# Altium schematic symbol library RESISTOR_10k.SchLib: 1 symbol
Pins are listed as number, name and electrical type; pins without a type are passive.

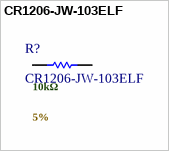
[diagram p0: symbol CR1206-JW-103ELF]

## CR1206-JW-103ELF
designator R?  .Value: 10kΩ  .Tolerance: 5%
SMD Chip Resistor, 10 kOhm, ± 5%, 250 mW, 1206 [3216 Metric], Thick Film, General Purpose; Manufacturer: Vishay; Manufacturer Part Number: CRCW120610K0JNEA; Power Dissipation: 250mW; Value: 10kΩ; Temperature Coefficient: 200ppm/°C; Voltage Rating: 200V; Supplier: Avnet; Supplier Part Number: CRCW120610K0JNEA; RoHS: Compliant; Category: Chip SMD Resistors; Stock: 700000; Pricing: 5000=0,00338 (USD); Case/Package: 1206; Case Code (Imperial): 1206; Case Code (Metric): 3216; China RoHS: Non-Compliant; Composition: Thick Film; Contact Plating: Tin; Depth: 1.6mm; Height: 550µm; Lead Free: Lead Free; Length: 3.2mm; Lifecycle Status: Production; Max Operating Temperature: 155°C; Military Standard: Not; Min Operating Temperature: -55°C; Mounting Technology: Surface Mount; Pins: 2; Number of Terminals: 2; Packaging: Cut Tape; Power Rating: 250mW; Radiation Hardening: No; REACH SVHC: Yes; Schedule B: 8533210045, 8533210045|8533210045|8533210045|8533210045|8533210045|8533210045|8533210045|8533210045|8533210045, 8533210045|8533210045|8533210045|8533210045|8533210045|8533210045|8533210045|8533210045|8533210045|8533210045, 8533210045|8533210045|8533210045|8533210045|8533210045|8533210045|8533210045|8533210045|8533210045|8533210045|8533210045; Termination: SMD/SMT; Tolerance: 5%; Voltage Rating (DC): 200V; Weight: 10.007382mg; Width: 1.6mm; Working Voltage: 200V; ComponentLink1URL: https://datasheet.octopart.com:443/CRCW120610K0JNEA-Vishay-datasheet-175423584.pdf?src-supplier=IHS; ComponentLink1Description: https://datasheet.octopart.com:443/CRCW120610K0JNEA-Vishay-datasheet-175423584.pdf?src-supplier=IHS; ComponentLink2URL: https://datasheet.octopart.com:443/CRCW120610K0JNEA-Vishay-datasheet-83961561.pdf?src-supplier=Newark; ComponentLink2Description: https://datasheet.octopart.com:443/CRCW120610K0JNEA-Vishay-datasheet-83961561.pdf?src-supplier=Newark; ComponentLink3URL: https://datasheet.octopart.com:443/CRCW120610K0JNEA-Vishay-datasheet-41302739.pdf?src-supplier=Newark; ComponentLink3Description: https://datasheet.octopart.com:443/CRCW120610K0JNEA-Vishay-datasheet-41302739.pdf?src-supplier=Newark; ComponentLink4URL: https://datasheet.octopart.com:443/CRCW120610K0JNEA-Vishay-datasheet-21268114.pdf?src-supplier=Newark; ComponentLink4Description: https://datasheet.octopart.com:443/CRCW120610K0JNEA-Vishay-datasheet-21268114.pdf?src-supplier=Newark; ComponentLink5URL: https://datasheet.octopart.com:443/CRCW120610K0JNEA-Vishay-datasheet-21226360.pdf?src-supplier=Newark; ComponentLink5Description: https://datasheet.octopart.com:443/CRCW120610K0JNEA-Vishay-datasheet-21226360.pdf?src-supplier=Newark; ComponentLink6URL: https://datasheet.octopart.com:443/CRCW120610K0JNEA-Vishay-datasheet-62317937.pdf?src-supplier=element14+APAC; ComponentLink6Description: https://datasheet.octopart.com:443/CRCW120610K0JNEA-Vishay-datasheet-62317937.pdf?src-supplier=element14+APAC; ComponentLink7URL: https://datasheet.octopart.com:443/CRCW120610K0JNEA-Vishay-datasheet-66077789.pdf?src-supplier=element14+APAC; ComponentLink7Description: https://datasheet.octopart.com:443/CRCW120610K0JNEA-Vishay-datasheet-66077789.pdf?src-supplier=element14+APAC; ComponentLink8URL: https://datasheet.octopart.com:443/CRCW120610K0JNEA-Vishay-datasheet-14722531.pdf?src-supplier=element14+APAC; ComponentLink8Description: https://datasheet.octopart.com:443/CRCW120610K0JNEA-Vishay-datasheet-14722531.pdf?src-supplier=element14+APAC; ComponentLink9URL: https://datasheet.octopart.com:443/CRCW120610K0JNEA-Vishay-Dale-datasheet-41169522.pdf?src-supplier=element14+APAC; ComponentLink9Description: https://datasheet.octopart.com:443/CRCW120610K0JNEA-Vishay-Dale-datasheet-41169522.pdf?src-supplier=element14+APAC; ComponentLink10URL: https://datasheet.octopart.com:443/CRCW120610K0JNEA-Vishay-datasheet-41195454.pdf?src-supplier=Farnell; ComponentLink10Description: https://datasheet.octopart.com:443/CRCW120610K0JNEA-Vishay-datasheet-41195454.pdf?src-supplier=Farnell; ComponentLink11URL: https://datasheet.octopart.com:443/CRCW120610K0JNEA-Vishay-datasheet-13242068.pdf?src-supplier=Farnell; ComponentLink11Description: https://datasheet.octopart.com:443/CRCW120610K0JNEA-Vishay-datasheet-13242068.pdf?src-supplier=Farnell; ComponentLink12URL: https://datasheet.octopart.com:443/CRCW120610K0JNEA-Vishay-datasheet-13195083.pdf?src-supplier=Farnell; ComponentLink12Description: https://datasheet.octopart.com:443/CRCW120610K0JNEA-Vishay-datasheet-13195083.pdf?src-supplier=Farnell; ComponentLink13URL: https://datasheet.octopart.com:443/CRCW120610K0JNEA-Vishay-datasheet-13034211.pdf?src-supplier=Farnell; ComponentLink13Description: https://datasheet.octopart.com:443/CRCW120610K0JNEA-Vishay-datasheet-13034211.pdf?src-supplier=Farnell; ComponentLink14URL: https://datasheet.octopart.com:443/CRCW120610K0JNEA-Vishay-datasheet-12600034.pdf?src-supplier=Farnell; ComponentLink14Description: https://datasheet.octopart.com:443/CRCW120610K0JNEA-Vishay-datasheet-12600034.pdf?src-supplier=Farnell; ComponentLink15URL: https://datasheet.octopart.com:443/CRCW120610K0JNEA-Vishay-datasheet-12532161.pdf?src-supplier=Farnell; ComponentLink15Description: https://datasheet.octopart.com:443/CRCW120610K0JNEA-Vishay-datasheet-12532161.pdf?src-supplier=Farnell; ComponentLink16URL: https://datasheet.octopart.com:443/CRCW120610K0JNEA-Vishay-datasheet-12517896.pdf?src-supplier=Farnell; ComponentLink16Description: https://datasheet.octopart.com:443/CRCW120610K0JNEA-Vishay-datasheet-12517896.pdf?src-supplier=Farnell; ComponentLink17URL: https://datasheet.octopart.com:443/CRCW120610K0JNEA-Vishay-datasheet-12509762.pdf?src-supplier=Farnell; ComponentLink17Description: https://datasheet.octopart.com:443/CRCW120610K0JNEA-Vishay-datasheet-12509762.pdf?src-supplier=Farnell; ComponentLink18URL: https://datasheet.octopart.com:443/CRCW120610K0JNEA-Vishay-datasheet-10322335.pdf?src-supplier=Farnell; ComponentLink18Description: https://datasheet.octopart.com:443/CRCW120610K0JNEA-Vishay-datasheet-10322335.pdf?src-supplier=Farnell; ComponentLink19URL: https://datasheet.octopart.com:443/CRCW120610K0JNEA-Vishay-datasheet-8788789.pdf?src-supplier=Farnell; ComponentLink19Description: https://datasheet.octopart.com:443/CRCW120610K0JNEA-Vishay-datasheet-8788789.pdf?src-supplier=Farnell; ComponentLink20URL: https://datasheet.octopart.com:443/CRCW120610K0JNEA-Vishay-datasheet-8361388.pdf?src-supplier=Farnell; ComponentLink20Description: https://datasheet.octopart.com:443/CRCW120610K0JNEA-Vishay-datasheet-8361388.pdf?src-supplier=Farnell; ComponentLink21URL: https://datasheet.octopart.com:443/CRCW120610K0JNEA-Vishay-datasheet-546287.pdf?src-supplier=Farnell; ComponentLink21Description: https://datasheet.octopart.com:443/CRCW120610K0JNEA-Vishay-datasheet-546287.pdf?src-supplier=Farnell; ComponentLink22URL: https://datasheet.octopart.com:443/CRCW120610K0JNEA-Vishay-datasheet-5300368.pdf?src-supplier=Future+Electronics; ComponentLink22Description: https://datasheet.octopart.com:443/CRCW120610K0JNEA-Vishay-datasheet-5300368.pdf?src-supplier=Future+Electronics; ComponentLink23URL: https://datasheet.octopart.com:443/CRCW120610K0JNEA-Vishay-datasheet-62316122.pdf?src-supplier=Future+Electronics; ComponentLink23Description: https://datasheet.octopart.com:443/CRCW120610K0JNEA-Vishay-datasheet-62316122.pdf?src-supplier=Future+Electronics; ComponentLink24URL: https://datasheet.octopart.com:443/CRCW120610K0JNEA-Vishay-datasheet-5306405.pdf?src-supplier=RS+(Formerly+Allied+Electronics); ComponentLink24Description: https://datasheet.octopart.com:443/CRCW120610K0JNEA-Vishay-datasheet-5306405.pdf?src-supplier=RS+(Formerly+Allied+Electronics); ComponentLink25URL: https://datasheet.octopart.com:443/CRCW120610K0JNEA-Vishay-Dale-datasheet-47688880.pdf?src-supplier=RS+(Formerly+Allied+Electronics); ComponentLink25Description: https://datasheet.octopart.com:443/CRCW120610K0JNEA-Vishay-Dale-datasheet-47688880.pdf?src-supplier=RS+(Formerly+Allied+Electronics); ComponentLink26URL: https://datasheet.octopart.com:443/CRCW120610K0JNEA-Vishay-datasheet-12001583.pdf?src-supplier=RS+(Formerly+Allied+Electronics); ComponentLink26Description: https://datasheet.octopart.com:443/CRCW120610K0JNEA-Vishay-datasheet-12001583.pdf?src-supplier=RS+(Formerly+Allied+Electronics); ComponentLink27URL: https://datasheet.octopart.com:443/CRCW120610K0JNEA-Vishay-datasheet-17834126.pdf?src-supplier=TME; ComponentLink27Description: https://datasheet.octopart.com:443/CRCW120610K0JNEA-Vishay-datasheet-17834126.pdf?src-supplier=TME; ComponentLink28URL: https://datasheet.octopart.com/D-CRCW-e3-Standard-Thick-Film-Chip-Resistors-Vishay-datasheet-family-64.pdf; ComponentLink28Description: https://datasheet.octopart.com/D-CRCW-e3-Standard-Thick-Film-Chip-Resistors-Vishay-datasheet-family-64.pdf; ComponentLink29URL: https://datasheet.octopart.com:443/CRCW120610K0JNEA-Vishay-datasheet-8445837.pdf?src-supplier=element14; ComponentLink29Description: https://datasheet.octopart.com:443/CRCW120610K0JNEA-Vishay-datasheet-8445837.pdf?src-supplier=element14; ComponentLink30URL: https://datasheet.octopart.com:443/CRCW120610K0JNEA-Vishay-datasheet-5377184.pdf?src-supplier=Garrett; ComponentLink30Description: https://datasheet.octopart.com:443/CRCW120610K0JNEA-Vishay-datasheet-5377184.pdf?src-supplier=Garrett; ComponentLink31URL: https://datasheet.octopart.com:443/CRCW120610K0JNEA-Vishay-datasheet-148188.pdf?src-supplier=Garrett; ComponentLink31Description: https://datasheet.octopart.com:443/CRCW120610K0JNEA-Vishay-datasheet-148188.pdf?src-supplier=Garrett; ComponentLink32URL: https://datasheet.octopart.com:443/CRCW120610K0JNEA-Vishay-datasheet-41916.pdf?src-supplier=Garrett; ComponentLink32Description: https://datasheet.octopart.com:443/CRCW120610K0JNEA-Vishay-datasheet-41916.pdf?src-supplier=Garrett; ComponentLink33URL: http://sigma.octopart.com:80/rohs_certificate/D-CRCW-e3-Standard-Thick-Film-Chip-Resistors-Vishay-family-102.pdf?src-supplier=Compliance+Statements; ComponentLink33Description: http://sigma.octopart.com:80/rohs_certificate/D-CRCW-e3-Standard-Thick-Film-Chip-Resistors-Vishay-family-102.pdf?src-supplier=Compliance+Statements; Features: Moisture Resistant; Max Power Dissipation: 250mW; Number of Terminations: 2; ComponentLink34URL: https://datasheet.octopart.com:443/CR1206-JW-103ELF-Bourns-datasheet-159578630.pdf?src-supplier=IHS; ComponentLink34Description: https://datasheet.octopart.com:443/CR1206-JW-103ELF-Bourns-datasheet-159578630.pdf?src-supplier=IHS; ComponentLink35URL: https://datasheet.octopart.com:443/CR1206-JW-103ELF-Bourns-datasheet-181955239.pdf?src-supplier=IHS; ComponentLink35Description: https://datasheet.octopart.com:443/CR1206-JW-103ELF-Bourns-datasheet-181955239.pdf?src-supplier=IHS; ComponentLink36URL: https://datasheet.octopart.com:443/CR1206-JW-103ELF-Bourns-datasheet-68301634.pdf?src-supplier=element14+APAC; ComponentLink36Description: https://datasheet.octopart.com:443/CR1206-JW-103ELF-Bourns-datasheet-68301634.pdf?src-supplier=element14+APAC; ComponentLink37URL: https://datasheet.octopart.com:443/CR1206-JW-103ELF-Bourns-datasheet-49799764.pdf?src-supplier=element14+APAC; ComponentLink37Description: https://datasheet.octopart.com:443/CR1206-JW-103ELF-Bourns-datasheet-49799764.pdf?src-supplier=element14+APAC; ComponentLink38URL: https://datasheet.octopart.com:443/CR1206-JW-103ELF.-Bourns-datasheet-45190937.pdf?src-supplier=element14+APAC; ComponentLink38Description: https://datasheet.octopart.com:443/CR1206-JW-103ELF.-Bourns-datasheet-45190937.pdf?src-supplier=element14+APAC; ComponentLink39URL: https://datasheet.octopart.com:443/CR1206-JW-103ELF.-Bourns-datasheet-62114779.pdf?src-supplier=element14+APAC; ComponentLink39Description: https://datasheet.octopart.com:443/CR1206-JW-103ELF.-Bourns-datasheet-62114779.pdf?src-supplier=element14+APAC; ComponentLink40URL: https://datasheet.octopart.com:443/CR1206-JW-103ELF.-Bourns-datasheet-34229249.pdf?src-supplier=element14+APAC; ComponentLink40Description: https://datasheet.octopart.com:443/CR1206-JW-103ELF.-Bourns-datasheet-34229249.pdf?src-supplier=element14+APAC; ComponentLink41URL: https://datasheet.octopart.com/CR1206-JW-103ELF-Bourns-datasheet-5318152.pdf; ComponentLink41Description: https://datasheet.octopart.com/CR1206-JW-103ELF-Bourns-datasheet-5318152.pdf; ComponentLink42URL: https://datasheet.octopart.com:443/CR1206-JW-103ELF-Bourns-datasheet-154729663.pdf?src-supplier=Electro+Sonic; ComponentLink42Description: https://datasheet.octopart.com:443/CR1206-JW-103ELF-Bourns-datasheet-154729663.pdf?src-supplier=Electro+Sonic; ComponentLink43URL: https://datasheet.octopart.com:443/CR1206-JW-103ELF-Bourns-datasheet-11547086.pdf?src-supplier=Electro+Sonic; ComponentLink43Description: https://datasheet.octopart.com:443/CR1206-JW-103ELF-Bourns-datasheet-11547086.pdf?src-supplier=Electro+Sonic; ComponentLink44URL: https://datasheet.octopart.com:443/CR1206-JW-103ELF-Bourns-datasheet-28808732.pdf?src-supplier=Farnell; ComponentLink44Description: https://datasheet.octopart.com:443/CR1206-JW-103ELF-Bourns-datasheet-28808732.pdf?src-supplier=Farnell; ComponentLink45URL: https://datasheet.octopart.com:443/CR1206-JW-103ELF-Bourns-datasheet-24895818.pdf?src-supplier=Farnell; ComponentLink45Description: https://datasheet.octopart.com:443/CR1206-JW-103ELF-Bourns-datasheet-24895818.pdf?src-supplier=Farnell; ComponentLink46URL: https://datasheet.octopart.com:443/CR1206-JW-103ELF-Bourns-datasheet-22971629.pdf?src-supplier=Farnell; ComponentLink46Description: https://datasheet.octopart.com:443/CR1206-JW-103ELF-Bourns-datasheet-22971629.pdf?src-supplier=Farnell; ComponentLink47URL: https://datasheet.octopart.com:443/CR1206-JW-103ELF.-Bourns-datasheet-41232171.pdf?src-supplier=Farnell; ComponentLink47Description: https://datasheet.octopart.com:443/CR1206-JW-103ELF.-Bourns-datasheet-41232171.pdf?src-supplier=Farnell; ComponentLink48URL: https://datasheet.octopart.com:443/CR1206-JW-103ELF-Bourns-datasheet-137067991.pdf?src-supplier=X-ON; ComponentLink48Description: https://datasheet.octopart.com:443/CR1206-JW-103ELF-Bourns-datasheet-137067991.pdf?src-supplier=X-ON; ComponentLink49URL: https://datasheet.octopart.com:443/CR1206-JW-103ELF-Bourns-datasheet-140567134.pdf?src-supplier=Arrow.cn; ComponentLink49Description: https://datasheet.octopart.com:443/CR1206-JW-103ELF-Bourns-datasheet-140567134.pdf?src-supplier=Arrow.cn; ComponentLink50URL: http://sigma.octopart.com:80/conflict_mineral_statement/Bourns-company-36.pdf?src-supplier=Compliance+Statements; ComponentLink50Description: http://sigma.octopart.com:80/conflict_mineral_statement/Bourns-company-36.pdf?src-supplier=Compliance+Statements; Supplier 1: DigiKey; Supplier Part Number 1: CR1206-JW-103ELFCT-ND
footprint Chip-Resistor-10k
pins: 1, 2